# EAGLE library part MT48LC32M16A2 (library ARM926SBC)
SDR SDRAM, PC-133 CL3, 64MB, 16-bit
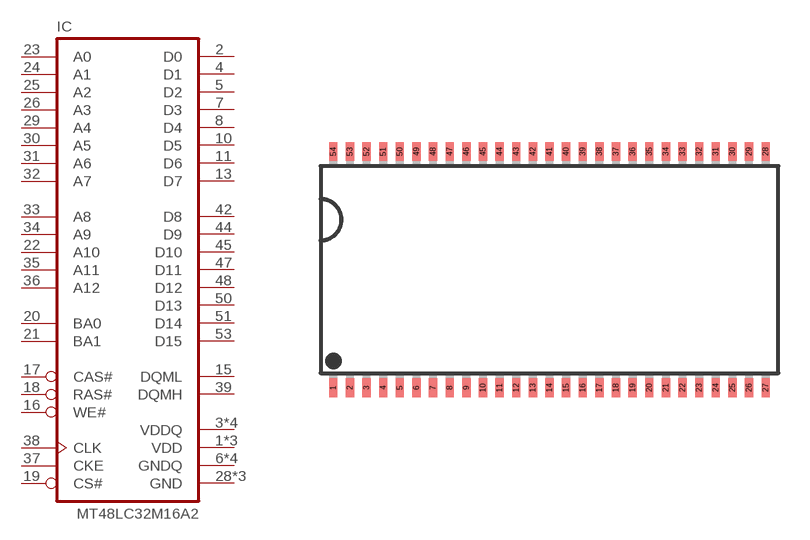
[diagram p1: symbol with the pads of TSOP54-400; footprint TSOP54-400]

Designator prefix IC

## MT48LC32M16A2-75C, MT48LC32M16A2-7EC  [TSOP54-400]
1  VDD  pwr
2  D0
3  VDDQ  pwr
4  D1
5  D2
6  GNDQ  pwr
7  D3
8  D4
9  VDDQ  pwr
10  D5
11  D6
12  GNDQ  pwr
13  D7
14  VDD  pwr
15  DQML  in
16  WE#  in
17  CAS#  in
18  RAS#  in
19  CS#  in
20  BA0  in
21  BA1  in
22  A10  in
23  A0  in
24  A1  in
25  A2  in
26  A3  in
27  VDD  pwr
28  GND  pwr
29  A4  in
30  A5  in
31  A6  in
32  A7  in
33  A8  in
34  A9  in
35  A11  in
36  A12  in
37  CKE  in
38  CLK  in
39  DQMH  in
41  GND  pwr
42  D8
43  VDDQ  pwr
44  D9
45  D10
46  GNDQ  pwr
47  D11
48  D12
49  VDDQ  pwr
50  D13
51  D14
52  GNDQ  pwr
53  D15
54  GND  pwr

## Footprint TSOP54-400 (pad centres in mm)
smd 0.4 x 0.9: 1 -10.4,-5.68; 2 -9.6,-5.68; 3 -8.8,-5.68; 4 -8,-5.68; 5 -7.2,-5.68; 6 -6.4,-5.68; 7 -5.6,-5.68; 8 -4.8,-5.68; 9 -4,-5.68; 10 -3.2,-5.68; 11 -2.4,-5.68; 12 -1.6,-5.68; 13 -0.8,-5.68; 14 0,-5.68; 15 0.8,-5.68; 16 1.6,-5.68; 17 2.4,-5.68; 18 3.2,-5.68; 19 4,-5.68; 20 4.8,-5.68; 21 5.6,-5.68; 22 6.4,-5.68; 23 7.2,-5.68; 24 8,-5.68; 25 8.8,-5.68; 26 9.6,-5.68; 27 10.4,-5.68; 28 10.4,5.68; 29 9.6,5.68; 30 8.8,5.68; 31 8,5.68; 32 7.2,5.68; 33 6.4,5.68; 34 5.6,5.68; 35 4.8,5.68; 36 4,5.68; 37 3.2,5.68; 38 2.4,5.68; 39 1.6,5.68; 40 0.8,5.68; 41 0,5.68; 42 -0.8,5.68; 43 -1.6,5.68; 44 -2.4,5.68; 45 -3.2,5.68; 46 -4,5.68; 47 -4.8,5.68; 48 -5.6,5.68; 49 -6.4,5.68; 50 -7.2,5.68; 51 -8,5.68; 52 -8.8,5.68; 53 -9.6,5.68; 54 -10.4,5.68